# Altium footprint library Atmel Footprints.PcbLib: 116 footprints (part 2 of 8)
Each footprint in its own frame and in the unit in brackets; x right, y up, seen from the top. Pads: shape width x height; smd on the part's side, far side on the other; paste and mask are expansions set on the pad; w line width, h text height; cw(c..) or ccw(c..) is an arc to the next point about the centre after c.
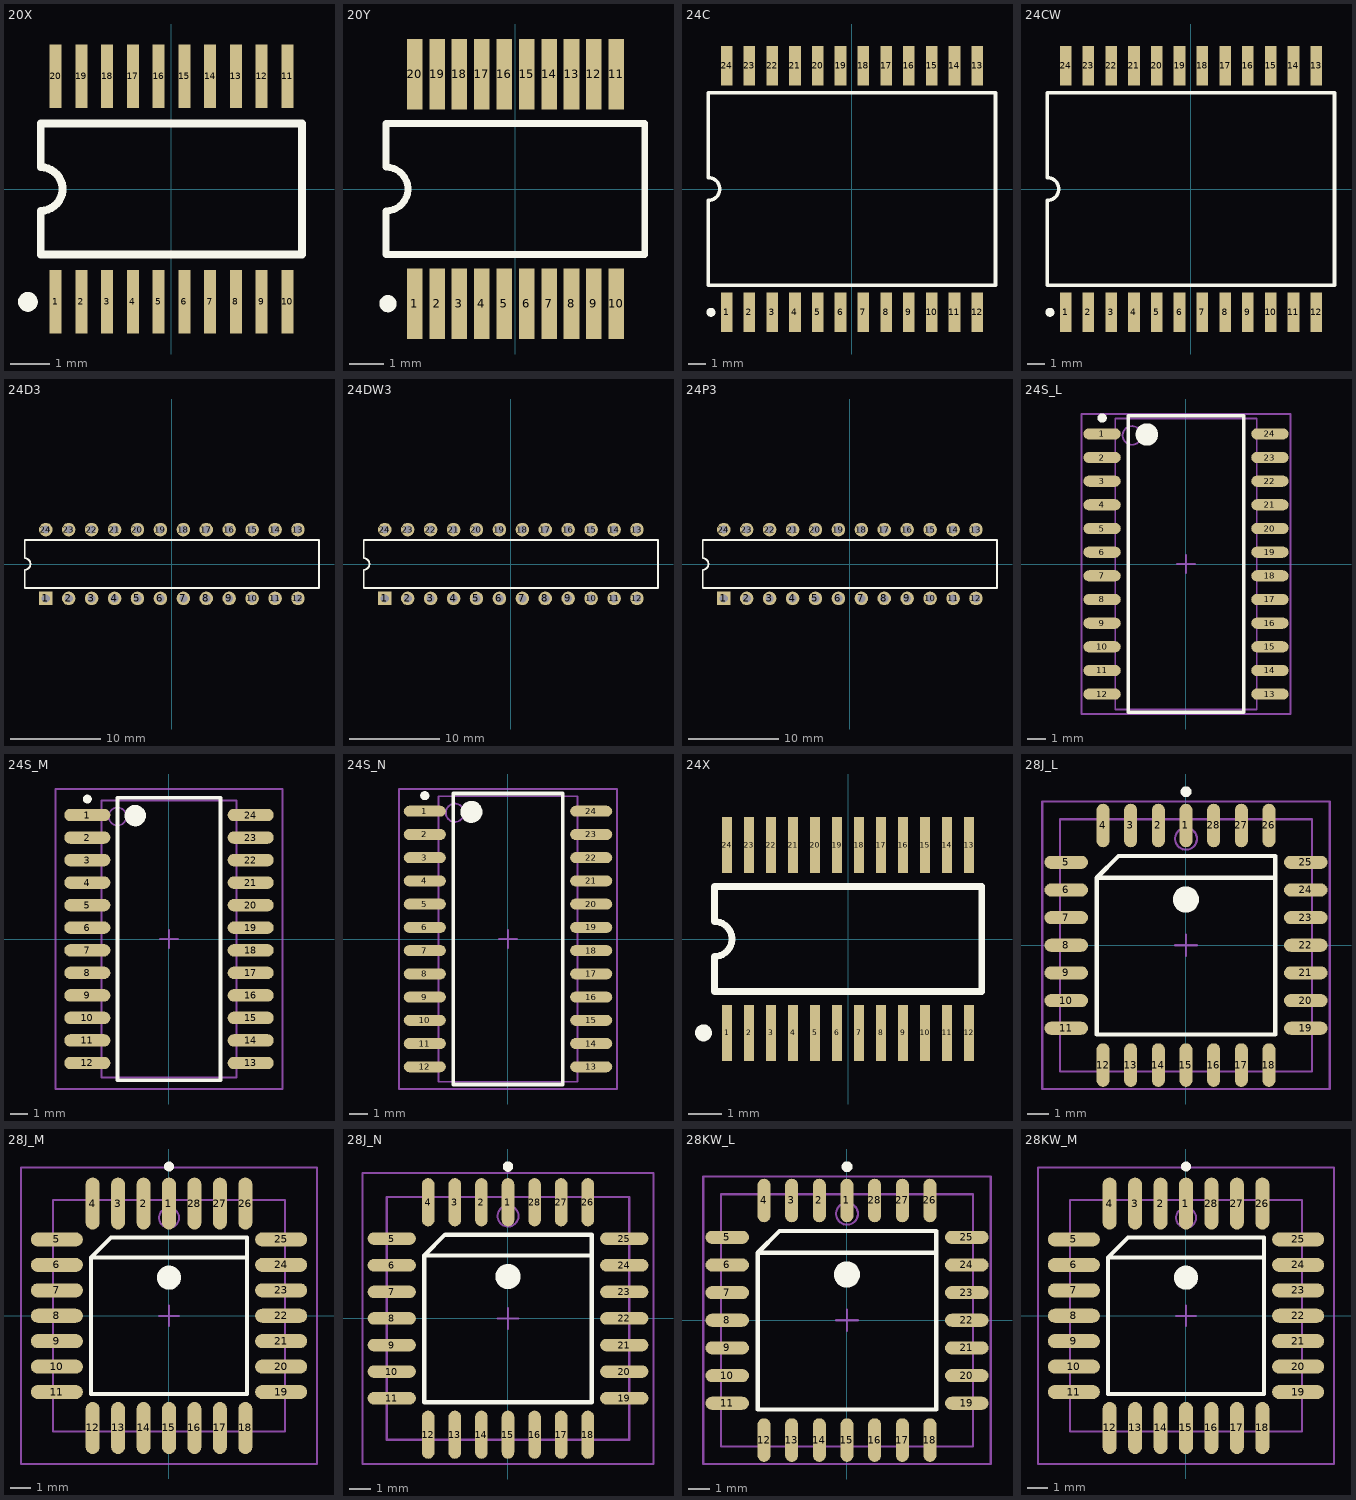
[diagram p1: the footprints below, top view; thin cyan lines are the x and y axes]

## 20X [mm] "Shrink Small Outline; 20 Leads; Body Width 4.4 mm; Pitch 0.65 mm"
height 1.1
pads (20):
  rect 0.3x1.6 smd: 1(-2.925,-2.85) 2(-2.275,-2.85) 3(-1.625,-2.85) 4(-0.975,-2.85) 5(-0.325,-2.85) 6(0.325,-2.85) 7(0.975,-2.85) 8(1.625,-2.85) 9(2.275,-2.85) 10(2.925,-2.85) 11(2.925,2.85) 12(2.275,2.85) 13(1.625,2.85) 14(0.975,2.85) 15(0.325,2.85) 16(-0.325,2.85) 17(-0.975,2.85) 18(-1.625,2.85) 19(-2.275,2.85) 20(-2.925,2.85)
Top Overlay:
  circle w0.25: c-3.625,-2.85 r0.125
  lines w0.2: -3.3,-1.65 3.3,-1.65 3.3,1.65 -3.3,1.65 -3.3,0.55 cw(c-3.3,0) -3.3,-0.55 -3.3,-1.65

## 20Y [mm] "SSOP; 20 Leads; Body Width 5.3 mm; Pitch 0.65 mm"
height 1.99
pads (20):
  rect 0.45x2.05 smd: 1(-2.925,-3.325) 2(-2.275,-3.325) 3(-1.625,-3.325) 4(-0.975,-3.325) 5(-0.325,-3.325) 6(0.325,-3.325) 7(0.975,-3.325) 8(1.625,-3.325) 9(2.275,-3.325) 10(2.925,-3.325) 11(2.925,3.325) 12(2.275,3.325) 13(1.625,3.325) 14(0.975,3.325) 15(0.325,3.325) 16(-0.325,3.325) 17(-0.975,3.325) 18(-1.625,3.325) 19(-2.275,3.325) 20(-2.925,3.325)
Top Overlay:
  circle w0.25: c-3.7,-3.325 r0.125
  lines w0.2: -3.75,-1.9 -3.75,-0.633 ccw(c-3.75,0) -3.75,0.633 -3.75,1.9 3.75,1.9 3.75,-1.9 -3.75,-1.9

## 24C [mm] "DFP; 24 Leads; Body 16 x 9.9 mm (LxW max); Pitch 1.27 mm"
height 2.29
pads (24):
  rect 0.65x2.2 smd: 1(-6.985,-6.875) 2(-5.715,-6.875) 3(-4.445,-6.875) 4(-3.175,-6.875) 5(-1.905,-6.875) 6(-0.635,-6.875) 7(0.635,-6.875) 8(1.905,-6.875) 9(3.175,-6.875) 10(4.445,-6.875) 11(5.715,-6.875) 12(6.985,-6.875) 13(6.985,6.875) 14(5.715,6.875) 15(4.445,6.875) 16(3.175,6.875) 17(1.905,6.875) 18(0.635,6.875) 19(-0.635,6.875) 20(-1.905,6.875) 21(-3.175,6.875) 22(-4.445,6.875) 23(-5.715,6.875) 24(-6.985,6.875)
Top Overlay:
  circle w0.25: c-7.86,-6.875 r0.125
  lines w0.2: -8,-5.375 8,-5.375 8,5.375 -8,5.375 -8,0.635 cw(c-8,0) -8,-0.635 -8,-5.375

## 24CW [mm] "DFP; 24 Leads; Body 16 x 9.9 mm (LxW max); Pitch 1.27 mm"
height 2.41
pads (24):
  rect 0.65x2.2 smd: 1(-6.985,-6.875) 2(-5.715,-6.875) 3(-4.445,-6.875) 4(-3.175,-6.875) 5(-1.905,-6.875) 6(-0.635,-6.875) 7(0.635,-6.875) 8(1.905,-6.875) 9(3.175,-6.875) 10(4.445,-6.875) 11(5.715,-6.875) 12(6.985,-6.875) 13(6.985,6.875) 14(5.715,6.875) 15(4.445,6.875) 16(3.175,6.875) 17(1.905,6.875) 18(0.635,6.875) 19(-0.635,6.875) 20(-1.905,6.875) 21(-3.175,6.875) 22(-4.445,6.875) 23(-5.715,6.875) 24(-6.985,6.875)
Top Overlay:
  circle w0.25: c-7.86,-6.875 r0.125
  lines w0.2: -8,-5.375 -8,-0.635 ccw(c-8,0) -8,0.635 -8,5.375 8,5.375 8,-5.375 -8,-5.375

## 24D3 [mm] "DIP; 24 Leads; Row Spacing 7.62 mm; Pitch 2.54 mm"
height 5.08
pads (24):
  rect 1.5x1.5 hole 0.9: 1(-13.97,-3.81)
  round 1.5 hole 0.9: 2(-11.43,-3.81) 3(-8.89,-3.81) 4(-6.35,-3.81) 5(-3.81,-3.81) 6(-1.27,-3.81) 7(1.27,-3.81) 8(3.81,-3.81) 9(6.35,-3.81) 10(8.89,-3.81) 11(11.43,-3.81) 12(13.97,-3.81) 13(13.97,3.81) 14(11.43,3.81) 15(8.89,3.81) 16(6.35,3.81) 17(3.81,3.81) 18(1.27,3.81) 19(-1.27,3.81) 20(-3.81,3.81) 21(-6.35,3.81) 22(-8.89,3.81) 23(-11.43,3.81) 24(-13.97,3.81)
Top Overlay:
  lines w0.2: -16.3,-2.65 -16.3,-0.635 ccw(c-16.3,0) -16.3,0.635 -16.3,2.65 16.3,2.65 16.3,-2.65 -16.3,-2.65

## 24DW3 [mm] "DIP; 24 Leads; Row Spacing 7.62 mm; Pitch 2.54 mm"
height 5.08
pads (24):
  rect 1.5x1.5 hole 0.9: 1(-13.97,-3.81)
  round 1.5 hole 0.9: 2(-11.43,-3.81) 3(-8.89,-3.81) 4(-6.35,-3.81) 5(-3.81,-3.81) 6(-1.27,-3.81) 7(1.27,-3.81) 8(3.81,-3.81) 9(6.35,-3.81) 10(8.89,-3.81) 11(11.43,-3.81) 12(13.97,-3.81) 13(13.97,3.81) 14(11.43,3.81) 15(8.89,3.81) 16(6.35,3.81) 17(3.81,3.81) 18(1.27,3.81) 19(-1.27,3.81) 20(-3.81,3.81) 21(-6.35,3.81) 22(-8.89,3.81) 23(-11.43,3.81) 24(-13.97,3.81)
Top Overlay:
  lines w0.2: -16.3,-2.65 -16.3,-0.635 ccw(c-16.3,0) -16.3,0.635 -16.3,2.65 16.3,2.65 16.3,-2.65 -16.3,-2.65

## 24P3 [mm] "DIP; 24 Leads; Row Spacing 7.62 mm; Pitch 2.54 mm"
height 5.08
pads (24):
  rect 1.5x1.5 hole 0.9: 1(-13.97,-3.81)
  round 1.5 hole 0.9: 2(-11.43,-3.81) 3(-8.89,-3.81) 4(-6.35,-3.81) 5(-3.81,-3.81) 6(-1.27,-3.81) 7(1.27,-3.81) 8(3.81,-3.81) 9(6.35,-3.81) 10(8.89,-3.81) 11(11.43,-3.81) 12(13.97,-3.81) 13(13.97,3.81) 14(11.43,3.81) 15(8.89,3.81) 16(6.35,3.81) 17(3.81,3.81) 18(1.27,3.81) 19(-1.27,3.81) 20(-3.81,3.81) 21(-6.35,3.81) 22(-8.89,3.81) 23(-11.43,3.81) 24(-13.97,3.81)
Top Overlay:
  lines w0.2: -16.3,-2.65 -16.3,-0.635 ccw(c-16.3,0) -16.3,0.635 -16.3,2.65 16.3,2.65 16.3,-2.65 -16.3,-2.65

## 24S_L [mm] "24-Pin Small Outline Integrated Circuit 1.27 mm Pitch, IPC High Density"
height 2.67
pads (24):
  oval 2x0.6 smd: 1(-4.5,6.985) 2(-4.5,5.715) 3(-4.5,4.445) 4(-4.5,3.175) 5(-4.5,1.905) 6(-4.5,0.635) 7(-4.5,-0.635) 8(-4.5,-1.905) 9(-4.5,-3.175) 10(-4.5,-4.445) 11(-4.5,-5.715) 12(-4.5,-6.985) 13(4.5,-6.985) 14(4.5,-5.715) 15(4.5,-4.445) 16(4.5,-3.175) 17(4.5,-1.905) 18(4.5,-0.635) 19(4.5,0.635) 20(4.5,1.905) 21(4.5,3.175) 22(4.5,4.445) 23(4.5,5.715) 24(4.5,6.985)
Top Overlay:
  circle w0.25: c-4.5,7.835 r0.125
  circle w0.6: c-2.1,6.95 r0.3
  lines w0.2: -3.1,-7.95 -3.1,7.95 3.1,7.95 3.1,-7.95 -3.1,-7.95
Mechanical 13:
  circle w0.1: c-2.9,6.9 r0.5
  lines w0.1: -3.8,-7.8 -3.8,7.8 3.8,7.8 3.8,-7.8 -3.8,-7.8
Mechanical 15:
  lines w0.1: -0.5,0 0.5,0 ; 0,-0.5 0,0.5 ; -5.6,-8.05 -5.6,8.05 5.6,8.05 5.6,-8.05 -5.6,-8.05
3D body: height 2.67, standoff 0, extent -3.8,-7.8 3.8,7.8

## 24S_M [mm] "24-Pin Small Outline Integrated Circuit 1.27 mm Pitch, IPC Low Density"
height 2.67
pads (24):
  oval 2.6x0.7 smd: 1(-4.6,6.985) 2(-4.6,5.715) 3(-4.6,4.445) 4(-4.6,3.175) 5(-4.6,1.905) 6(-4.6,0.635) 7(-4.6,-0.635) 8(-4.6,-1.905) 9(-4.6,-3.175) 10(-4.6,-4.445) 11(-4.6,-5.715) 12(-4.6,-6.985) 13(4.6,-6.985) 14(4.6,-5.715) 15(4.6,-4.445) 16(4.6,-3.175) 17(4.6,-1.905) 18(4.6,-0.635) 19(4.6,0.635) 20(4.6,1.905) 21(4.6,3.175) 22(4.6,4.445) 23(4.6,5.715) 24(4.6,6.985)
Top Overlay:
  circle w0.25: c-4.6,7.885 r0.125
  circle w0.6: c-1.9,6.95 r0.3
  lines w0.2: -2.9,-7.95 -2.9,7.95 2.9,7.95 2.9,-7.95 -2.9,-7.95
Mechanical 13:
  circle w0.1: c-2.9,6.9 r0.5
  lines w0.1: -3.8,-7.8 -3.8,7.8 3.8,7.8 3.8,-7.8 -3.8,-7.8
Mechanical 15:
  lines w0.1: -0.5,0 0.5,0 ; 0,-0.5 0,0.5 ; -6.4,-8.45 -6.4,8.45 6.4,8.45 6.4,-8.45 -6.4,-8.45
3D body: height 2.67, standoff 0, extent -3.8,-7.8 3.8,7.8

## 24S_N [mm] "24-Pin Small Outline Integrated Circuit 1.27 mm Pitch, IPC Medium Density"
height 2.67
pads (24):
  oval 2.3x0.6 smd: 1(-4.55,6.985) 2(-4.55,5.715) 3(-4.55,4.445) 4(-4.55,3.175) 5(-4.55,1.905) 6(-4.55,0.635) 7(-4.55,-0.635) 8(-4.55,-1.905) 9(-4.55,-3.175) 10(-4.55,-4.445) 11(-4.55,-5.715) 12(-4.55,-6.985) 13(4.55,-6.985) 14(4.55,-5.715) 15(4.55,-4.445) 16(4.55,-3.175) 17(4.55,-1.905) 18(4.55,-0.635) 19(4.55,0.635) 20(4.55,1.905) 21(4.55,3.175) 22(4.55,4.445) 23(4.55,5.715) 24(4.55,6.985)
Top Overlay:
  circle w0.6: c-2,6.95 r0.3
  circle w0.25: c-4.55,7.835 r0.125
  lines w0.2: -3,-7.95 3,-7.95 3,7.95 -3,7.95 -3,-7.95
Mechanical 13:
  circle w0.1: c-2.9,6.9 r0.5
  lines w0.1: -3.8,-7.8 3.8,-7.8 3.8,7.8 -3.8,7.8 -3.8,-7.8
Mechanical 15:
  lines w0.1: -0.5,0 0.5,0 ; 0,-0.5 0,0.5 ; -5.95,-8.2 5.95,-8.2 5.95,8.2 -5.95,8.2 -5.95,-8.2
3D body: height 2.67, standoff 0, extent -3.8,-7.8 3.8,7.8

## 24X [mm] "Shrink Small Outline; 24 Leads; Body Width 4.4 mm; Pitch 0.65 mm"
height 1.1
pads (24):
  rect 0.3x1.65 smd: 1(-3.575,-2.775) 2(-2.925,-2.775) 3(-2.275,-2.775) 4(-1.625,-2.775) 5(-0.975,-2.775) 6(-0.325,-2.775) 7(0.325,-2.775) 8(0.975,-2.775) 9(1.625,-2.775) 10(2.275,-2.775) 11(2.925,-2.775) 12(3.575,-2.775) 13(3.575,2.775) 14(2.925,2.775) 15(2.275,2.775) 16(1.625,2.775) 17(0.975,2.775) 18(0.325,2.775) 19(-0.325,2.775) 20(-0.975,2.775) 21(-1.625,2.775) 22(-2.275,2.775) 23(-2.925,2.775) 24(-3.575,2.775)
Top Overlay:
  circle w0.25: c-4.275,-2.775 r0.125
  lines w0.2: -3.95,-1.55 3.95,-1.55 3.95,1.55 -3.95,1.55 -3.95,0.517 cw(c-3.95,0) -3.95,-0.517 -3.95,-1.55

## 28J_L [mm] "28-Pin Leaded Chip Carrier 1.27 mm Pitch, IPC High Density"
height 4.57
pads (28):
  oval 0.6x2 smd: 1(0,5.5) 2(-1.27,5.5) 3(-2.54,5.5) 4(-3.81,5.5) 12(-3.81,-5.5) 13(-2.54,-5.5) 14(-1.27,-5.5) 15(0,-5.5) 16(1.27,-5.5) 17(2.54,-5.5) 18(3.81,-5.5) 26(3.81,5.5) 27(2.54,5.5) 28(1.27,5.5)
  oval 2x0.6 smd: 5(-5.5,3.81) 6(-5.5,2.54) 7(-5.5,1.27) 8(-5.5,0) 9(-5.5,-1.27) 10(-5.5,-2.54) 11(-5.5,-3.81) 19(5.5,-3.81) 20(5.5,-2.54) 21(5.5,-1.27) 22(5.5,0) 23(5.5,1.27) 24(5.5,2.54) 25(5.5,3.81)
Top Overlay:
  circle w0.6: c0,2.1 r0.3
  circle w0.25: c0,7.05 r0.125
  lines w0.2: 4.1,3.1 -4.1,3.1 ; -4.1,3.1 -4.1,-4.1 4.1,-4.1 4.1,4.1 -3.1,4.1 -4.1,3.1
Mechanical 13:
  circle w0.1: c0,4.89 r0.5
  lines w0.1: -5.79,-5.79 5.79,-5.79 5.79,5.79 -5.79,5.79 -5.79,-5.79
Mechanical 15:
  lines w0.1: -0.5,0 0.5,0 ; 0,-0.5 0,0.5 ; -6.6,-6.6 6.6,-6.6 6.6,6.6 -6.6,6.6 -6.6,-6.6
3D body: height 4.57, standoff 0, extent -5.79,-5.79 5.79,5.79

## 28J_M [mm] "28-Pin Leaded Chip Carrier 1.27 mm Pitch, IPC Low Density"
height 4.57
pads (28):
  oval 0.7x2.6 smd: 1(0,5.6) 2(-1.27,5.6) 3(-2.54,5.6) 4(-3.81,5.6) 12(-3.81,-5.6) 13(-2.54,-5.6) 14(-1.27,-5.6) 15(0,-5.6) 16(1.27,-5.6) 17(2.54,-5.6) 18(3.81,-5.6) 26(3.81,5.6) 27(2.54,5.6) 28(1.27,5.6)
  oval 2.6x0.7 smd: 5(-5.6,3.81) 6(-5.6,2.54) 7(-5.6,1.27) 8(-5.6,0) 9(-5.6,-1.27) 10(-5.6,-2.54) 11(-5.6,-3.81) 19(5.6,-3.81) 20(5.6,-2.54) 21(5.6,-1.27) 22(5.6,0) 23(5.6,1.27) 24(5.6,2.54) 25(5.6,3.81)
Top Overlay:
  circle w0.6: c0,1.9 r0.3
  circle w0.25: c0,7.45 r0.125
  lines w0.2: 3.9,2.9 -3.9,2.9 ; -3.9,2.9 -3.9,-3.9 3.9,-3.9 3.9,3.9 -2.9,3.9 -3.9,2.9
Mechanical 13:
  circle w0.1: c0,4.89 r0.5
  lines w0.1: -5.79,-5.79 5.79,-5.79 5.79,5.79 -5.79,5.79 -5.79,-5.79
Mechanical 15:
  lines w0.1: -0.5,0 0.5,0 ; 0,-0.5 0,0.5 ; -7.4,-7.4 7.4,-7.4 7.4,7.4 -7.4,7.4 -7.4,-7.4
3D body: height 4.57, standoff 0, extent -5.79,-5.79 5.79,5.79

## 28J_N [mm] "28-Pin Leaded Chip Carrier 1.27 mm Pitch, IPC Medium Density"
height 4.57
pads (28):
  oval 0.6x2.3 smd: 1(0,5.55) 2(-1.27,5.55) 3(-2.54,5.55) 4(-3.81,5.55) 12(-3.81,-5.55) 13(-2.54,-5.55) 14(-1.27,-5.55) 15(0,-5.55) 16(1.27,-5.55) 17(2.54,-5.55) 18(3.81,-5.55) 26(3.81,5.55) 27(2.54,5.55) 28(1.27,5.55)
  oval 2.3x0.6 smd: 5(-5.55,3.81) 6(-5.55,2.54) 7(-5.55,1.27) 8(-5.55,0) 9(-5.55,-1.27) 10(-5.55,-2.54) 11(-5.55,-3.81) 19(5.55,-3.81) 20(5.55,-2.54) 21(5.55,-1.27) 22(5.55,0) 23(5.55,1.27) 24(5.55,2.54) 25(5.55,3.81)
Top Overlay:
  circle w0.25: c0,7.25 r0.125
  circle w0.6: c0,2 r0.3
  lines w0.2: 4,3 -4,3 ; -4,3 -3,4 4,4 4,-4 -4,-4 -4,3
Mechanical 13:
  circle w0.1: c0,4.89 r0.5
  lines w0.1: -5.79,-5.79 -5.79,5.79 5.79,5.79 5.79,-5.79 -5.79,-5.79
Mechanical 15:
  lines w0.1: -0.5,0 0.5,0 ; 0,-0.5 0,0.5 ; -6.95,-6.95 -6.95,6.95 6.95,6.95 6.95,-6.95 -6.95,-6.95
3D body: height 4.57, standoff 0, extent -5.79,-5.79 5.79,5.79

## 28KW_L [mm] "28-Pin Window Ceramic Leaded Chip Carrier 1.27 mm Pitch, IPC High Density"
height 4.57
pads (28):
  oval 0.6x2 smd: 1(0,5.5) 2(-1.27,5.5) 3(-2.54,5.5) 4(-3.81,5.5) 12(-3.81,-5.5) 13(-2.54,-5.5) 14(-1.27,-5.5) 15(0,-5.5) 16(1.27,-5.5) 17(2.54,-5.5) 18(3.81,-5.5) 26(3.81,5.5) 27(2.54,5.5) 28(1.27,5.5)
  oval 2x0.6 smd: 5(-5.5,3.81) 6(-5.5,2.54) 7(-5.5,1.27) 8(-5.5,0) 9(-5.5,-1.27) 10(-5.5,-2.54) 11(-5.5,-3.81) 19(5.5,-3.81) 20(5.5,-2.54) 21(5.5,-1.27) 22(5.5,0) 23(5.5,1.27) 24(5.5,2.54) 25(5.5,3.81)
Top Overlay:
  circle w0.25: c0,7.05 r0.125
  circle w0.6: c0,2.1 r0.3
  lines w0.2: 4.1,3.1 -4.1,3.1 ; -4.1,3.1 -3.1,4.1 4.1,4.1 4.1,-4.1 -4.1,-4.1 -4.1,3.1
Mechanical 13:
  circle w0.1: c0,4.89 r0.5
  lines w0.1: -5.79,-5.79 -5.79,5.79 5.79,5.79 5.79,-5.79 -5.79,-5.79
Mechanical 15:
  lines w0.1: -0.5,0 0.5,0 ; 0,-0.5 0,0.5 ; -6.6,-6.6 -6.6,6.6 6.6,6.6 6.6,-6.6 -6.6,-6.6
3D body: height 4.57, standoff 0, extent -5.79,-5.79 5.79,5.79

## 28KW_M [mm] "28-Pin Window Ceramic Leaded Chip Carrier 1.27 mm Pitch, IPC Low Density"
height 4.57
pads (28):
  oval 0.7x2.6 smd: 1(0,5.6) 2(-1.27,5.6) 3(-2.54,5.6) 4(-3.81,5.6) 12(-3.81,-5.6) 13(-2.54,-5.6) 14(-1.27,-5.6) 15(0,-5.6) 16(1.27,-5.6) 17(2.54,-5.6) 18(3.81,-5.6) 26(3.81,5.6) 27(2.54,5.6) 28(1.27,5.6)
  oval 2.6x0.7 smd: 5(-5.6,3.81) 6(-5.6,2.54) 7(-5.6,1.27) 8(-5.6,0) 9(-5.6,-1.27) 10(-5.6,-2.54) 11(-5.6,-3.81) 19(5.6,-3.81) 20(5.6,-2.54) 21(5.6,-1.27) 22(5.6,0) 23(5.6,1.27) 24(5.6,2.54) 25(5.6,3.81)
Top Overlay:
  circle w0.6: c0,1.9 r0.3
  circle w0.25: c0,7.45 r0.125
  lines w0.2: 3.9,2.9 -3.9,2.9 ; -3.9,2.9 -3.9,-3.9 3.9,-3.9 3.9,3.9 -2.9,3.9 -3.9,2.9
Mechanical 13:
  circle w0.1: c0,4.89 r0.5
  lines w0.1: -5.79,-5.79 5.79,-5.79 5.79,5.79 -5.79,5.79 -5.79,-5.79
Mechanical 15:
  lines w0.1: -0.5,0 0.5,0 ; 0,-0.5 0,0.5 ; -7.4,-7.4 7.4,-7.4 7.4,7.4 -7.4,7.4 -7.4,-7.4
3D body: height 4.57, standoff 0, extent -5.79,-5.79 5.79,5.79